# EAGLE library part SI5933CDC- (library FET)
MOSFET 2P-CH 20V 3.7A 1206-8 Datasheet <http://www.vishay.com/docs/68822/si5933cd.pdf>
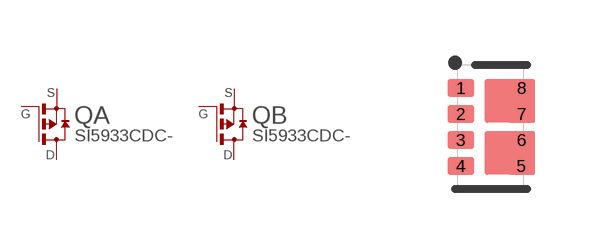
[diagram p0: symbol with the pads of 1206-8; footprint 1206-8]

Designator prefix Q; gates A=EMOS-PD B=EMOS-PD

## SI5933CDC-T1-GE3 (MFPN: SI5933CDC-T1-GE3; PARTNO: 01-100540-00)  [1206-8]
1  A:S  pas
2  A:G  pas
3  B:S  pas
4  B:G  pas
5  B:D  pas
6  B:D  pas
7  A:D  pas
8  A:D  pas

## Footprint 1206-8 (pad centres in mm)
8-SMD, Flat Lead 1206-8 ChipFET Datasheet <http://www.vishay.com/docs/68822/si5933cd.pdf>
smd 0.66 x 0.45: 1 -0.76,0.975; 2 -0.76,0.325; 3 -0.76,-0.325; 4 -0.76,-0.975; 5 0.76,-0.975; 6 0.76,-0.325; 7 0.76,0.325; 8 0.76,0.975